# EAGLE library part USB-B (library USB)
BERG USB connector
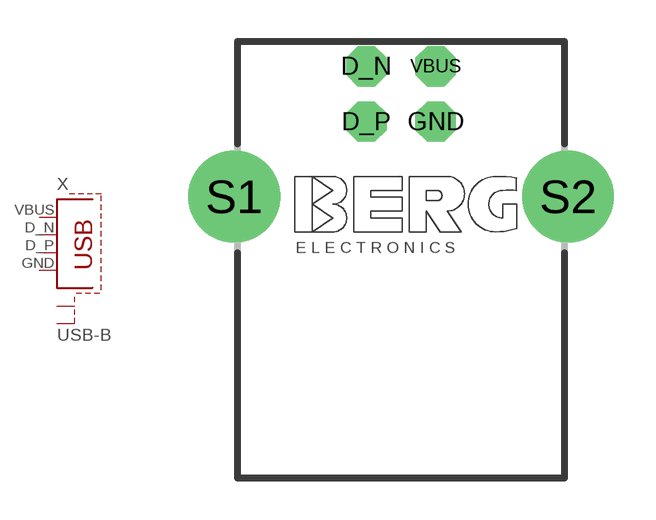
[diagram p1: symbol with the pads of BERG-PN61729-S; footprint BERG-PN61729-S]

Designator prefix X

## USB-B (MF: BERG; MPN: PN61729)  [BERG-PN61729-S]
D_N  USBD_N  pas
D_P  USBD_P  pas
GND  GND  pas
S1  S1  pas
S2  S2  pas
VBUS  VBUS  pas

## Footprint BERG-PN61729-S (pad centres in mm)
USB connector with shield
drill 0.95 octagon: D_N -1.25,4.71; D_P -1.25,2.71; GND 1.25,2.71; VBUS 1.25,4.71
drill 2.3 pad 2.9: S1 -6.02,0; S2 6.02,0